# Altium footprint library dev.PcbLib: 112 footprints (part 1 of 7)
Each footprint in its own frame and in the unit in brackets; x right, y up, seen from the top. Pads: shape width x height; smd on the part's side, far side on the other; paste and mask are expansions set on the pad; w line width, h text height; cw(c..) or ccw(c..) is an arc to the next point about the centre after c.
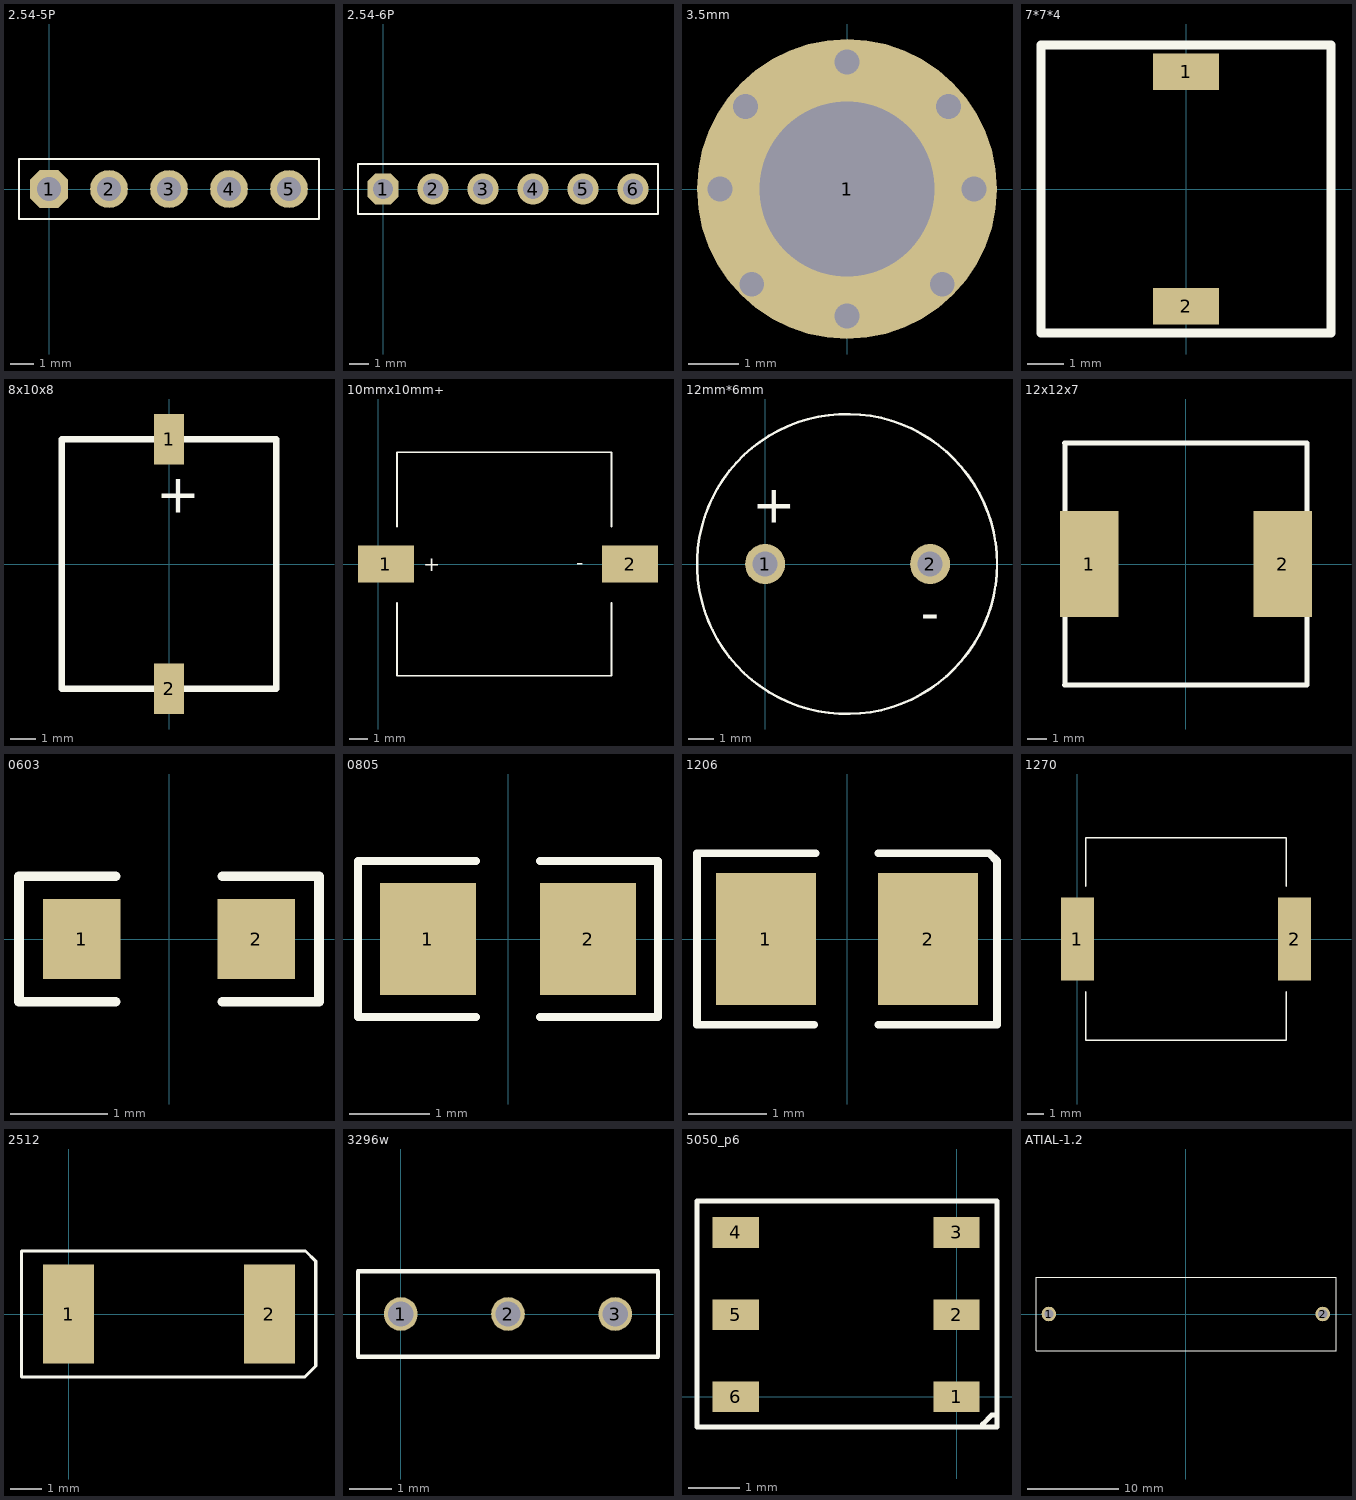
[diagram p0: the footprints below, top view; thin cyan lines are the x and y axes]

## 2.54-5P [mm]
pads (5):
  oct 1.6x1.6 hole 1: 1(0,0)
  round 1.6 hole 1: 2(2.54,0) 3(5.08,0) 4(7.62,0) 5(10.16,0)
Top Overlay:
  lines w0.1: -1.27,-1.27 -1.27,1.27 11.43,1.27 11.43,-1.27 -1.27,-1.27

## 2.54-6P [mm]
pads (6):
  oct 1.6x1.6 hole 1: 1(0,0)
  round 1.6 hole 1: 2(2.54,0) 3(5.08,0) 4(7.62,0) 5(10.16,0) 6(12.7,0)
Top Overlay:
  lines w0.1: -1.27,-1.27 13.97,-1.27 13.97,1.27 -1.27,1.27 -1.27,-1.27

## 3.5mm [mm]
pads (1):
  round 6 hole 3.5: 1(0,0)
via 2.032,1.651 diameter 0.5 hole 0.5
via -2.032,1.651 diameter 0.5 hole 0.5
via 1.905,-1.905 diameter 0.5 hole 0.5
via -1.905,-1.905 diameter 0.5 hole 0.5
via 2.54,0 diameter 0.5 hole 0.5
via -2.54,0 diameter 0.5 hole 0.5
via 0,-2.54 diameter 0.5 hole 0.5
via 0,2.54 diameter 0.5 hole 0.5

## 7*7*4 [mm]
pads (2):
  rect 1.8x1 smd: 1(0,3.2) 2(0,-3.2)
Top Overlay:
  lines w0.254: -3.962,-3.937 -3.962,3.937 ; -3.937,-3.937 3.937,-3.937 ; -3.937,3.937 3.937,3.937 ; 3.962,-3.937 3.962,3.937

## 8x10x8 [mm]
pads (2):
  rect 1.2x2 smd: 1(0,4.95) 2(0,-4.95)
Top Overlay:
  lines w0.254: -4.25,-4.95 -4.25,4.95 4.25,4.95 4.25,-4.95 -4.25,-4.95
  text "+" at -0.508,2.032 h1.52

## 10mmx10mm+ [mm]
pads (2):
  rect 3x2 smd: 1(0.4,0) 2(13.5,0)
Top Overlay:
  lines w0.1: 1,-2.1 1,-6 12.5,-6 12.5,-2.1 ; 1,2 1,6 12.5,6 12.5,2
  text "+" at 2.4,-0.4 h0.8
  text "-" at 10.6,-0.3 h0.8

## 12mm*6mm [mm]
pads (2):
  round 1.6 hole 1: 1(0,0) 2(6.6,0)
Top Overlay:
  circle w0.1: c3.277,0 r6
  text "-" at 6.223,-2.667 h1.52
  text "+" at -0.508,1.651 h1.52

## 12x12x7 [mm]
pads (2):
  rect 3x5.5 smd: 1(-5,0) 2(5,0)
Top Overlay:
  lines w0.254: -6.272,-6.25 6.228,-6.25 ; -6.272,6.25 6.228,6.25 ; -6.25,-6.25 -6.25,6.25 ; 6.25,-6.25 6.25,6.25

## 0603 [mm] "0603"
pads (2):
  rect 0.8x0.83 smd: 1(-0.9,0) 2(0.9,0)
Top Overlay:
  lines w0.1: -0.55,-0.65 -1.55,-0.65 -1.55,0.65 -0.55,0.65 ; 0.55,-0.65 1.55,-0.65 1.55,0.65 0.55,0.65

## 0805 [mm]
pads (2):
  rect 1.2x1.4 smd: 1(-1,0) 2(1,0)
Top Overlay:
  lines w0.1: -0.4,-0.975 -1.875,-0.975 -1.875,0.975 -0.4,0.975 ; 0.4,-0.975 1.875,-0.975 1.875,0.975 0.4,0.975

## 1206 [mm]
pads (2):
  rect 1.28x1.7 smd: 1(-1.04,0) 2(1.04,0)
Top Overlay:
  lines w0.1: -0.425,-1.1 -1.925,-1.1 -1.925,1.1 -0.4,1.1 ; 0.4,-1.1 1.925,-1.1 1.925,1 1.825,1.1 0.4,1.1

## 1270 [mm]
pads (2):
  rect 2x5 smd: 1(0,0) 2(13.081,0)
Top Overlay:
  lines w0.1: 0.508,-3.175 0.508,-6.096 12.573,-6.096 12.573,-3.175 ; 0.508,3.175 0.508,6.096 11.938,6.096 12.573,6.096 12.573,3.175

## 2512 [mm]
pads (2):
  rect 1.65x3.2 smd: 1(0,0) 2(6.48,0)
Top Overlay:
  lines w0.1: -1.524,-2.032 -1.524,-1.016 -1.524,2.032 7.62,2.032 7.645,2.032 7.976,1.702 7.976,-1.676 7.62,-2.032 -1.524,-2.032

## 3296w [mm]
pads (3):
  round 0.8 hole 0.6: 1(0,0) 2(2.54,0) 3(5.08,0)
Top Overlay:
  lines w0.1: -1.016,-1.016 6.096,-1.016 6.096,1.016 -1.016,1.016 -1.016,-1.016

## 5050_p6 [mm]
pads (6):
  rect 0.9x0.6 smd: 1(0,0) 2(0,1.6) 3(0,3.2) 4(-4.3,3.2) 5(-4.3,1.6) 6(-4.3,0)
Top Overlay:
  lines w0.1: 0.508,-0.584 0.508,-0.533 0.686,-0.356 0.737,-0.356 ; -5.055,-0.584 -5.055,3.81 0.787,3.81 0.787,-0.584 -5.055,-0.584

## ATIAL-1.2 [mm]
pads (2):
  round 1.6 hole 1: 1(-15,0) 2(15,0)
Top Overlay:
  lines w0.1: -16.408,-4 16.447,-4 16.447,4 -16.408,4 -16.408,-4